# Altium schematic symbol library B 变压器.SchLib: 30 symbols
Pins are listed as number, name and electrical type; pins without a type are passive.

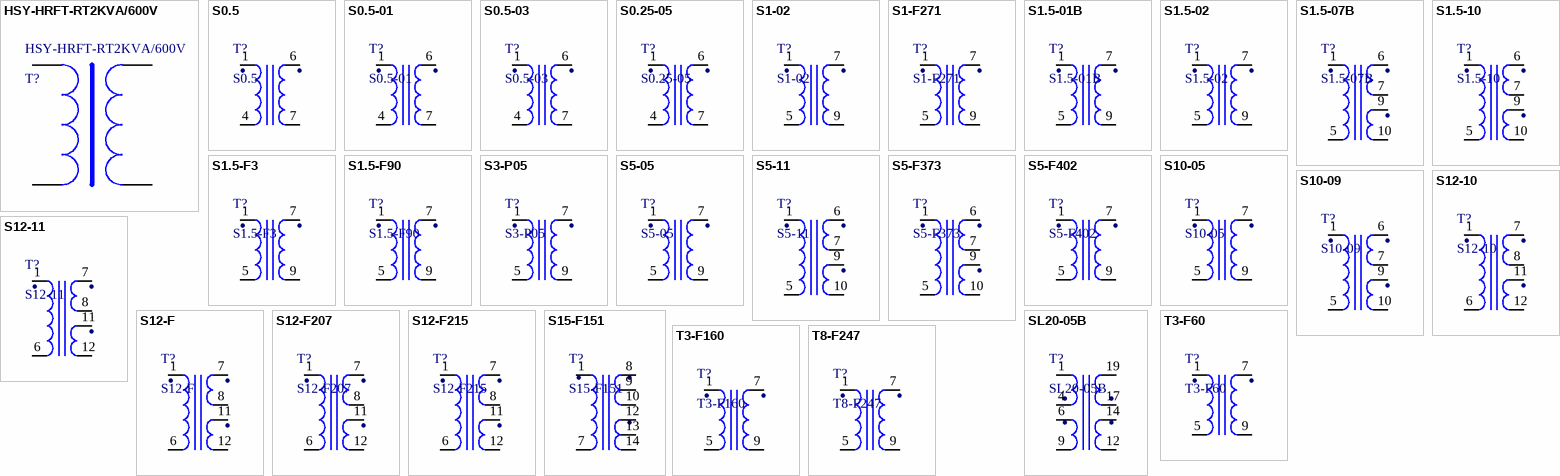
[diagram p0: symbols HSY-HRFT-RT2KVA/600V to T8-F247]

## HSY-HRFT-RT2KVA/600V
designator HSY-HRFT-RT2KVA/600V, comment T?
2KVA/100KHz
pins: 1, 2, 3, 4

## S0.5
designator T?
115V/12V/400Hz
footprint S0.5 (Footprint not found)
pins: 1, 4, 6, 7
text: .

## S0.5-01
designator T?
1-4 220V/50HZ 6-7 6V/83.3MA
footprint S0.5 (Footprint not found)
pins: 1, 4, 6, 7
text: .

## S0.5-03
designator T?
1-4 220V/50HZ 6-7 12V/41.6MA
footprint S0.5 (Footprint not found)
pins: 1, 4, 6, 7
text: .

## S0.25-05
designator T?
1-4 220V/50HZ 6-7 18V/0.25VA
footprint S0.25 (Footprint not found)
pins: 1, 4, 6, 7
text: .

## S1-02
designator T?
220V/9V
footprint S1 (Footprint not found)
pins: 1, 5, 7, 9
text: .

## S1-F271
designator T?
380V/19V
footprint S1 (Footprint not found)
pins: 1, 5, 7, 9
text: .

## S1.5-01B
designator T?
220V/7.5V
footprint S1.5 (Footprint not found)
pins: 1, 5, 7, 9
text: .

## S1.5-02
designator T?
1-5 220V/7-9 9V
footprint S1.5 (Footprint not found)
pins: 1, 5, 7, 9
text: .

## S1.5-07B
designator T?
1-5 220V/6-7 9V 9-10 9V
footprint S1.5 (Footprint not found)
pins: 1, 5, 6, 7, 9, 10
text: .

## S1.5-10
designator T?
1-5 220V/6-7 18V 9-10 18V
footprint S1.5 (Footprint not found)
pins: 1, 5, 6, 7, 9, 10
text: .

## S1.5-F3
designator T?
220V/16V
footprint S1.5 (Footprint not found)
pins: 1, 5, 7, 9
text: .

## S1.5-F90
designator T?
380V/15V
footprint S1.5 (Footprint not found)
pins: 1, 5, 7, 9
text: .

## S3-P05
designator T?
220V/18V
footprint S3 (Footprint not found)
pins: 1, 5, 7, 9
text: .

## S5-05
designator T?
220V/18V
footprint S5 (Footprint not found)
pins: 1, 5, 7, 9
text: .

## S5-11
designator T?
1-5 220V/6-7 18V 9-10 18V
footprint S5 (Footprint not found)
pins: 1, 5, 6, 7, 9, 10
text: .

## S5-F373
designator T?
1-5 380V/6-7 18V 9-10 18V
footprint S5 (Footprint not found)
pins: 1, 5, 6, 7, 9, 10
text: .

## S5-F402
designator T?
380V/18V
footprint S5 (Footprint not found)
pins: 1, 5, 7, 9
text: .

## S10-05
designator T?
220V/18V
footprint S10 (Footprint not found)
pins: 1, 5, 7, 9
text: .

## S10-09
designator T?
220V/12V
footprint S10 (Footprint not found)
pins: 1, 5, 6, 7, 9, 10
text: .

## S12-10
designator T?
220V/15V/6VA
footprint S12 (Footprint not found)
pins: 1, 6, 7, 8, 11, 12
text: .

## S12-11
designator T?
220V/18V
footprint S12 (Footprint not found)
pins: 1, 6, 7, 8, 11, 12
text: .

## S12-F
designator T?
480V,18V,18V
footprint S12 (Footprint not found)
pins: 1, 6, 7, 8, 11, 12
text: .

## S12-F207
designator T?
380/18V
footprint S12 (Footprint not found)
pins: 1, 6, 7, 8, 11, 12
text: .

## S12-F215
designator T?
440V/18V.18V
footprint S12 (Footprint not found)
pins: 1, 6, 7, 8, 11, 12
text: .

## S15-F151
designator T?
18V-0-18V/7.5VA
footprint S15 (Footprint not found)
pins: 1, 7, 8, 9, 10, 12, 13, 14
text: .

## SL20-05B
designator T?
110V/21V
footprint SL20 (开关电源)
pins: 1, 4, 6, 9, 12, 14, 17, 19
text: .

## T3-F60
designator T?
380V/18V
footprint T3 (Footprint not found)
pins: 1, 5, 7, 9
text: .

## T3-F160
designator T?
380V/7.5V
footprint T3 (Footprint not found)
pins: 1, 5, 7, 9
text: .

## T8-F247
designator T?
1-5 380V 7-9 12V
footprint T8 (Footprint not found)
pins: 1, 5, 7, 9
text: .